# EAGLE library part MIC2101 (library MIC2101)
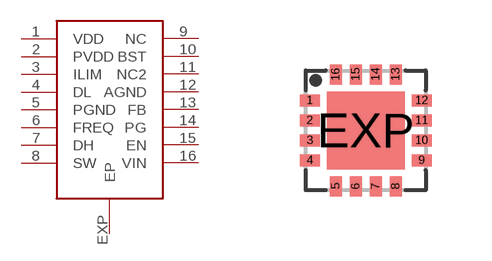
[diagram p0: symbol with the pads of QFN16; footprint QFN16]

Designator prefix -

## MIC2101QFN16  [QFN16]
1  VDD  pwr
2  PVDD
3  ILIM
4  DL
5  PGND
6  FREQ
7  DH
8  SW
9  NC  nc
10  BST
11  NC2  nc
12  AGND
13  FB
14  PG
15  EN
16  VIN  in
EXP  EP

## Footprint QFN16 (pad centres in mm)
QFN 16 3x3 mm Source: www.hittite.com .. hmc492lp3.pdf
smd 0.5 x 0.3: 1 -1.4,0.75; 2 -1.4,0.25; 3 -1.4,-0.25; 4 -1.4,-0.75; 9 1.4,-0.75; 10 1.4,-0.25; 11 1.4,0.25; 12 1.4,0.75
smd 0.3 x 0.5: 5 -0.75,-1.4; 6 -0.25,-1.4; 7 0.25,-1.4; 8 0.75,-1.4; 13 0.75,1.4; 14 0.25,1.4; 15 -0.25,1.4; 16 -0.75,1.4
smd 1.95 x 1.95: EXP 0,0